# Altium footprint library PCB - LEADED - SOT - SC70-5.PCBLIB: 1 footprints
Each footprint in its own frame and in the unit in brackets; x right, y up, seen from the top. Pads: shape width x height; smd on the part's side, far side on the other; paste and mask are expansions set on the pad; w line width, h text height; cw(c..) or ccw(c..) is an arc to the next point about the centre after c.
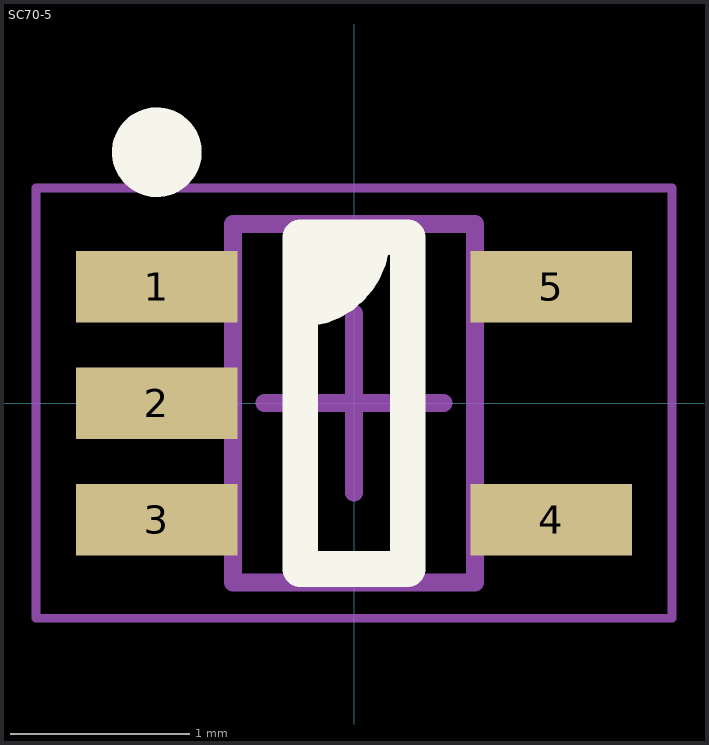
[diagram p0: the footprint, top view; thin cyan lines are the x and y axes]

## SC70-5 [mm] "SC70, 5-Leads, Body 2.0x2.10mm, Pitch 0.65mm, IPC Medium Density"
height 1.1
pads (5):
  rect 0.9x0.4 smd mask+0.07: 1(-1.1,0.65) 2(-1.1,0) 3(-1.1,-0.65) 4(1.1,-0.65) 5(1.1,0.65)
Top Overlay:
  circle w0.25: c-1.1,1.4 r0.125
  region: -0.3,0.925 -0.3,0.525 -0.22,0.525 -0.073,0.586 0.039,0.698 0.1,0.845 0.1,0.925
  lines w0.2: -0.3,0.525 ccw(c-0.3,0.925) 0.1,0.925 ; -0.3,-0.925 -0.3,0.925 0.3,0.925 0.3,-0.925 -0.3,-0.925
Mechanical 13:
  lines w0.1: -0.675,-1 0.675,-1 0.675,1 -0.675,1 -0.675,-1
Mechanical 15:
  lines w0.05: -1.775,-1.2 1.775,-1.2 1.775,1.2 -1.775,1.2 -1.775,-1.2
  lines w0.1: -0.5,0 0.5,0 ; 0,-0.5 0,0.5
3D body "SC-70-5.STEP": height 1.1, standoff 0, extent -1.06,-1 1.061,1